# EAGLE library part KSZ8051 (library parts)
10Base-T/100Base-TX Physical Layer Transceiver Implements only MII, not RMII
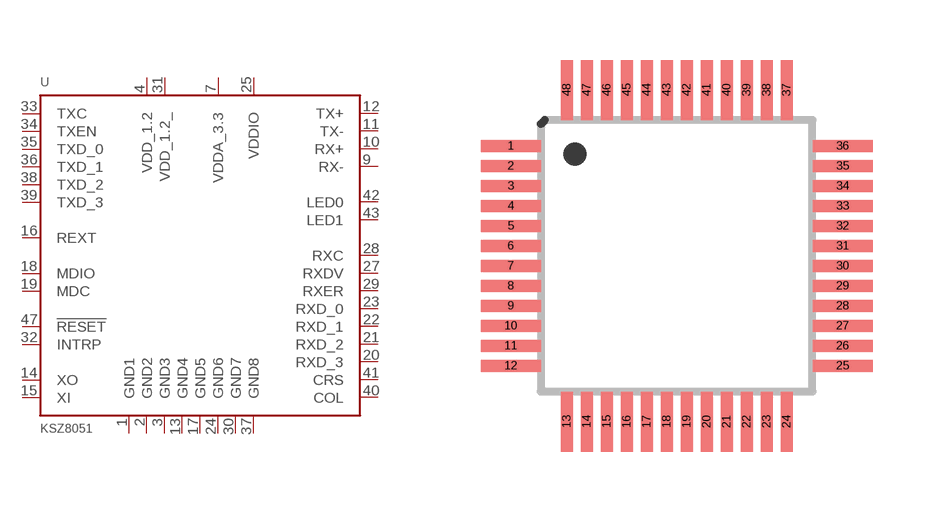
[diagram p15: symbol with the pads of LQFP48; footprint LQFP48]

Designator prefix U

## KSZ8051MLL (RS: 722-7296), KSZ8051IMLL (RS: 754-6370)  [LQFP48]
1  GND1  pwr
2  GND2  pwr
3  GND3  pwr
4  VDD_1.2  pwr
7  VDDA_3.3  pwr
9  RX-
10  RX+
11  TX-
12  TX+
13  GND4  pwr
14  XO  out
15  XI  in
16  REXT  in
17  GND5  pwr
18  MDIO
19  MDC  in
20  RXD_3  out
21  RXD_2  out
22  RXD_1  out
23  RXD_0  out
24  GND6  pwr
25  VDDIO  pwr
27  RXDV  out
28  RXC  out
29  RXER  out
30  GND7  pwr
31  VDD_1.2_  pwr
32  INTRP  oc
33  TXC
34  TXEN  in
35  TXD_0  in
36  TXD_1  in
37  GND8  pwr
38  TXD_2  in
39  TXD_3  in
40  COL  out
41  CRS  out
42  LED0  out
43  LED1  out
47  !RESET  in

## Footprint LQFP48 (pad centres in mm)
LQFP48 VXH48A Auto generated by make-symbol-device-package-bsdl.ulp Rev. 34 Source: http://www.national.com/ds/DP/DP83848VYB.pdf
smd 1.5 x 0.3: 1 -4.15,2.75; 2 -4.15,2.25; 3 -4.15,1.75; 4 -4.15,1.25; 5 -4.15,0.75; 6 -4.15,0.25; 7 -4.15,-0.25; 8 -4.15,-0.75; 9 -4.15,-1.25; 10 -4.15,-1.75; 11 -4.15,-2.25; 12 -4.15,-2.75; 25 4.15,-2.75; 26 4.15,-2.25; 27 4.15,-1.75; 28 4.15,-1.25; 29 4.15,-0.75; 30 4.15,-0.25; 31 4.15,0.25; 32 4.15,0.75; 33 4.15,1.25; 34 4.15,1.75; 35 4.15,2.25; 36 4.15,2.75
smd 0.3 x 1.5: 13 -2.75,-4.15; 14 -2.25,-4.15; 15 -1.75,-4.15; 16 -1.25,-4.15; 17 -0.75,-4.15; 18 -0.25,-4.15; 19 0.25,-4.15; 20 0.75,-4.15; 21 1.25,-4.15; 22 1.75,-4.15; 23 2.25,-4.15; 24 2.75,-4.15; 37 2.75,4.15; 38 2.25,4.15; 39 1.75,4.15; 40 1.25,4.15; 41 0.75,4.15; 42 0.25,4.15; 43 -0.25,4.15; 44 -0.75,4.15; 45 -1.25,4.15; 46 -1.75,4.15; 47 -2.25,4.15; 48 -2.75,4.15